# Altium footprint library TIDA-01415.PcbLib: 34 footprints (part 3 of 3)
Each footprint in its own frame and in the unit in brackets; x right, y up, seen from the top. Pads: shape width x height; smd on the part's side, far side on the other; paste and mask are expansions set on the pad; w line width, h text height; cw(c..) or ccw(c..) is an arc to the next point about the centre after c.
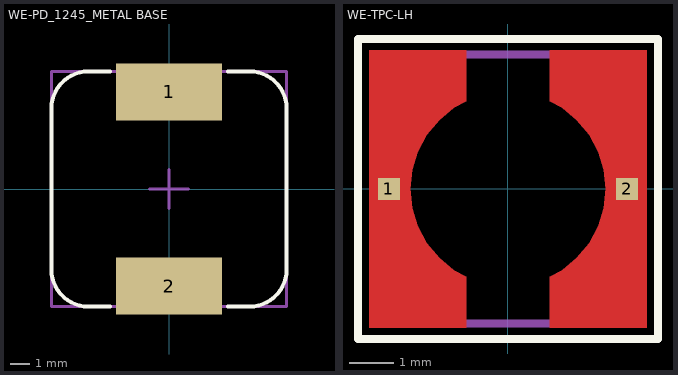
[diagram p2: the footprints below, top view; thin cyan lines are the x and y axes]

## WE-PD_1245_METAL BASE [mm] "SMD Inductor, 2-Leads, Body 12,0x12,0mm"
height 4.5
pads (2):
  rect 5.4x2.9 smd: 1(0,4.95) 2(0,-4.95)
Top Overlay:
  lines w0.2: -6.001,-4.1 ccw(c-4.101,-4.1) -4.101,-6 -3,-6 ; -6,-4.099 -6,4.1 cw(c-4.1,4.1) -4.1,6 -3,6 ; 2.999,-6 4.099,-6 ccw(c4.099,-4.101) 5.999,-4.1 5.999,4.099 ccw(c4.1,4.099) 4.1,5.999 3,5.999
  text ".Designator" at 6.921,0.787 h0.89
Mechanical 5:
  lines w0.152: -6,-6 6,-6 6,6 -6,6 -6,-6
  text ".Designator" at -1.283,0.508 h0.76
Mechanical 15:
  lines w0.15: -1,0 1,0 ; 0,-1 0,1
3D body "WE-PD_1245_metal base_7447715xx.stp": height 4.52, standoff 0.03, extent -6,-6 6,6

## WE-TPC-LH [mm] "Wurth Elektronik recommended land pattern, 2009-01-15"
height 3
pads (2):
  rect 0.5x0.5 smd: 1(-2.7,0) 2(2.7,0)
Top Layer:
  region: -0.95,3.15 -0.95,1.987 -1.228,1.838 -1.563,1.563 -1.838,1.228 -2.042,0.846 -2.168,0.431 -2.211,0 -2.168,-0.431 -2.042,-0.846 -1.838,-1.228 -1.563,-1.563 -1.228,-1.838 -0.95,-1.987 -0.95,-3.15 -3.15,-3.15 -3.15,3.15
  region: 0.95,3.15 0.95,1.987 1.228,1.838 1.563,1.563 1.838,1.228 2.042,0.846 2.168,0.431 2.211,0 2.168,-0.431 2.042,-0.846 1.838,-1.228 1.563,-1.563 1.228,-1.838 0.95,-1.987 0.95,-3.15 3.15,-3.15 3.15,3.15
Top Overlay:
  lines w0.178: -3.4,-3.4 -3.4,0 -3.4,3.4 0,3.4 3.4,3.4 3.4,0 3.4,-3.4 0,-3.4 -3.4,-3.4
Top Paste:
  region: 0.95,3.15 0.95,1.987 1.228,1.838 1.563,1.563 1.838,1.228 2.042,0.846 2.168,0.431 2.211,0 2.168,-0.431 2.042,-0.846 1.838,-1.228 1.563,-1.563 1.228,-1.838 0.95,-1.987 0.95,-3.15 3.15,-3.15 3.15,3.15
  region: -0.95,3.15 -0.95,1.987 -1.228,1.838 -1.563,1.563 -1.838,1.228 -2.042,0.846 -2.168,0.431 -2.211,0 -2.168,-0.431 -2.042,-0.846 -1.838,-1.228 -1.563,-1.563 -1.228,-1.838 -0.95,-1.987 -0.95,-3.15 -3.15,-3.15 -3.15,3.15
Top Solder:
  region: 0.95,3.15 0.95,1.987 1.228,1.838 1.563,1.563 1.838,1.228 2.042,0.846 2.168,0.431 2.211,0 2.168,-0.431 2.042,-0.846 1.838,-1.228 1.563,-1.563 1.228,-1.838 0.95,-1.987 0.95,-3.15 3.15,-3.15 3.15,3.15
  region: -0.95,3.15 -0.95,1.987 -1.228,1.838 -1.563,1.563 -1.838,1.228 -2.042,0.846 -2.168,0.431 -2.211,0 -2.168,-0.431 -2.042,-0.846 -1.838,-1.228 -1.563,-1.563 -1.228,-1.838 -0.95,-1.987 -0.95,-3.15 -3.15,-3.15 -3.15,3.15
Mechanical 5:
  lines w0.102: -3.048,-3.048 -3.048,3.048 3.048,3.048 3.048,-3.048 -3.048,-3.048
  text ".Designator" at -0.863,-0.249 h0.76
Mechanical 13:
  lines w0.178: -3.05,-1.78 ccw(c-1.78,-1.78) -1.78,-3.05 1.78,-3.05 ccw(c1.78,-1.78) 3.05,-1.78 3.05,1.78 ccw(c1.78,1.78) 1.78,3.05 -1.78,3.05 ccw(c-1.78,1.78) -3.05,1.78 -3.05,-1.78
3D body: height 3, standoff 0, extent -3.049,-3.049 3.049,3.049